# Altium footprint library PCB.PcbLib: 101 footprints (part 7 of 7)
Each footprint in its own frame and in the unit in brackets; x right, y up, seen from the top. Pads: shape width x height; smd on the part's side, far side on the other; paste and mask are expansions set on the pad; w line width, h text height; cw(c..) or ccw(c..) is an arc to the next point about the centre after c.
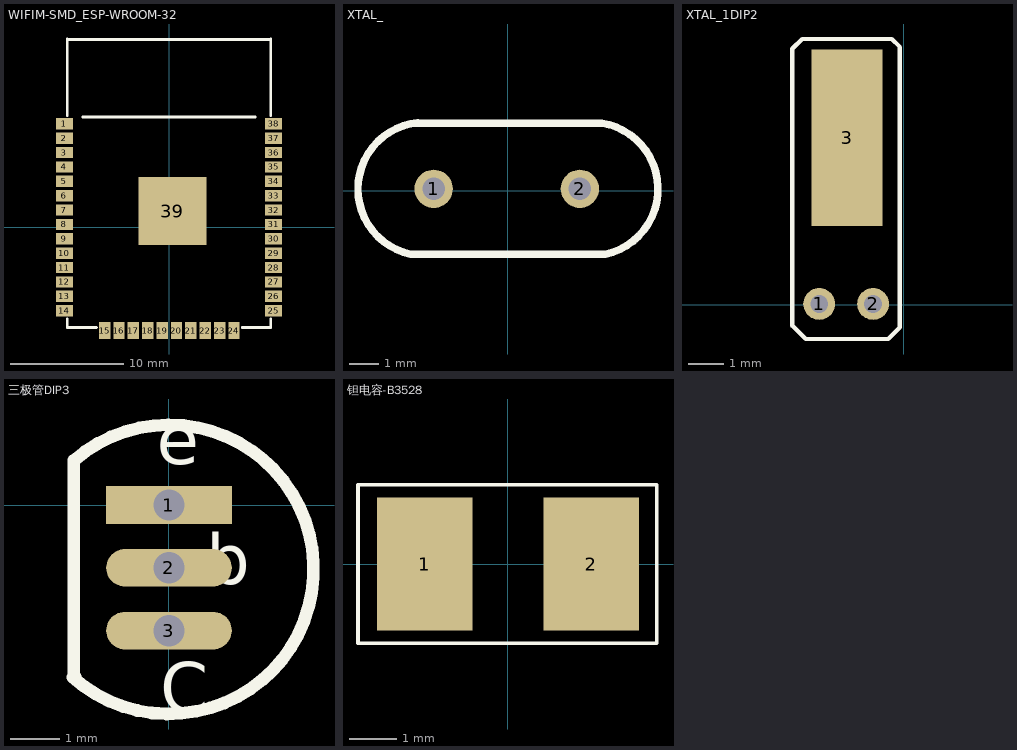
[diagram p6: the footprints below, top view; thin cyan lines are the x and y axes]

## WIFIM-SMD_ESP-WROOM-32 [mil]
pads (39):
  rect 59.1x39.4 smd: 1(-364,359.5) 2(-364,309.5) 3(-364,259.5) 4(-364,209.5) 5(-364,159.5) 6(-364,109.5) 7(-364,59.5) 8(-364,9.5) 9(-364,-40.5) 10(-364,-90.5) 11(-364,-140.5) 12(-364,-190.5) 13(-364,-240.5) 14(-364,-290.5) 25(364,-290.5) 26(364,-240.5) 27(364,-190.5) 28(364,-140.5) 29(364,-90.5) 30(364,-40.5) 31(364,9.5) 32(364,59.5) 33(364,109.5) 34(364,159.5) 35(364,209.5) 36(364,259.5) 37(364,309.5) 38(364,359.5)
  rect 39.4x59.1 smd: 15(-224,-359.5) 16(-174,-359.5) 17(-124,-359.5) 18(-74,-359.5) 19(-24,-359.5) 20(26,-359.5) 21(76,-359.5) 22(126,-359.5) 23(176,-359.5) 24(226,-359.5)
  rect 236.2x236.2 smd: 39(12,55.5)
Top Overlay:
  lines w10: -354,-319.3 -354,-349.5 -252.8,-349.5 ; -354,388.3 -354,654.5 ; -354,652.17 354,652.17 ; -300,383.5 300,383.5 ; 254.8,-349.5 354,-349.5 354,-319.3 ; 354,388.3 354,654.5
3D body "ESP-wroom-32.step": height 118.11, standoff -1.38, extent -357.09,-348.43 354.33,657.09

## XTAL_ [mm] "210628"
height 9
pads (2):
  round 1.3 hole 0.762: 1(-2.517,0.055) 2(2.436,0.055)
Top Overlay:
  lines w0.254: -3.175,2.286 3.168,2.286 ; -3.05,2.302 ccw(c-2.818,0.051) -3.302,-2.159 3.302,-2.159 ccw(c2.819,0.051) 3.175,2.286
3D body "XTAL.STEP": height 3.5, standoff -4, extent -5.725,-2.275 5.625,2.375

## XTAL_1DIP2 [mm] "2*6mm 圆柱晶体"
height 9
pads (3):
  round 0.9 hole 0.5: 1(-2.388,0.025) 2(-0.864,0.025)
  rect 2x5 smd: 3(-1.6,4.724)
Top Overlay:
  lines w0.127: -3.15,-0.584 -2.769,-0.965 -0.432,-0.965 -0.102,-0.635 -0.102,7.29 -0.33,7.518 -2.87,7.518 -3.15,7.239 -3.15,-0.584
3D body "osc-圆柱-32_768K.STEP": height 2, standoff 0, extent -2.61,-0.063 -0.61,7.276

## 三极管DIP3 [mil]
pads (3):
  rect 100x30 hole 25: 1(0,0)
  oval 100x30 hole 25: 2(0,-50) 3(0,-100)
Top Overlay:
  lines w10: -76.77,-137.06 ccw(c0.01,-51.25) -75.79,35.43 -75.79,-135.83 -74.8,-136.81
  text "b" at 29.53,-62.99 h40
  text "C" at -6.89,-165.35 h40
  text "e" at -9.84,32.48 h40

## 钽电容-B3528 [mm]
pads (2):
  rect 2x2.8 smd: 1(-1.75,0) 2(1.75,0)
Top Overlay:
  lines w0.076: -3.15,-1.667 -3.15,0.7 -3.15,1.667 3.124,1.667 3.124,-1.667 -3.15,-1.667